# EAGLE library part SN74HC540 (library RS-parts)
8 Channel INVERTER
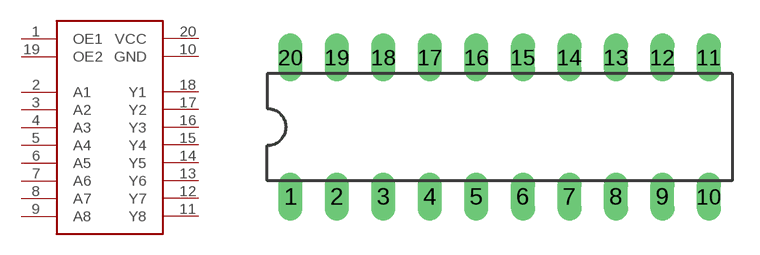
[diagram p2: symbol with the pads of DIL20; footprint DIL20]

Designator prefix -

## SN74HC540  [DIL20]
1  OE1
2  A1
3  A2
4  A3
5  A4
6  A5
7  A6
8  A7
9  A8
10  GND
11  Y8
12  Y7
13  Y6
14  Y5
15  Y4
16  Y3
17  Y2
18  Y1
19  OE2
20  VCC

## Footprint DIL20 (pad centres in mm)
Dual In Line Package
drill 0.813 long: 1 -11.43,-3.81; 2 -8.89,-3.81; 3 -6.35,-3.81; 4 -3.81,-3.81; 5 -1.27,-3.81; 6 1.27,-3.81; 7 3.81,-3.81; 8 6.35,-3.81; 9 8.89,-3.81; 10 11.43,-3.81; 11 11.43,3.81; 12 8.89,3.81; 13 6.35,3.81; 14 3.81,3.81; 15 1.27,3.81; 16 -1.27,3.81; 17 -3.81,3.81; 18 -6.35,3.81; 19 -8.89,3.81; 20 -11.43,3.81